# Altium footprint library TDII_Lib.PcbLib: 53 footprints (part 1 of 4)
Each footprint in its own frame and in the unit in brackets; x right, y up, seen from the top. Pads: shape width x height; smd on the part's side, far side on the other; paste and mask are expansions set on the pad; w line width, h text height; cw(c..) or ccw(c..) is an arc to the next point about the centre after c.
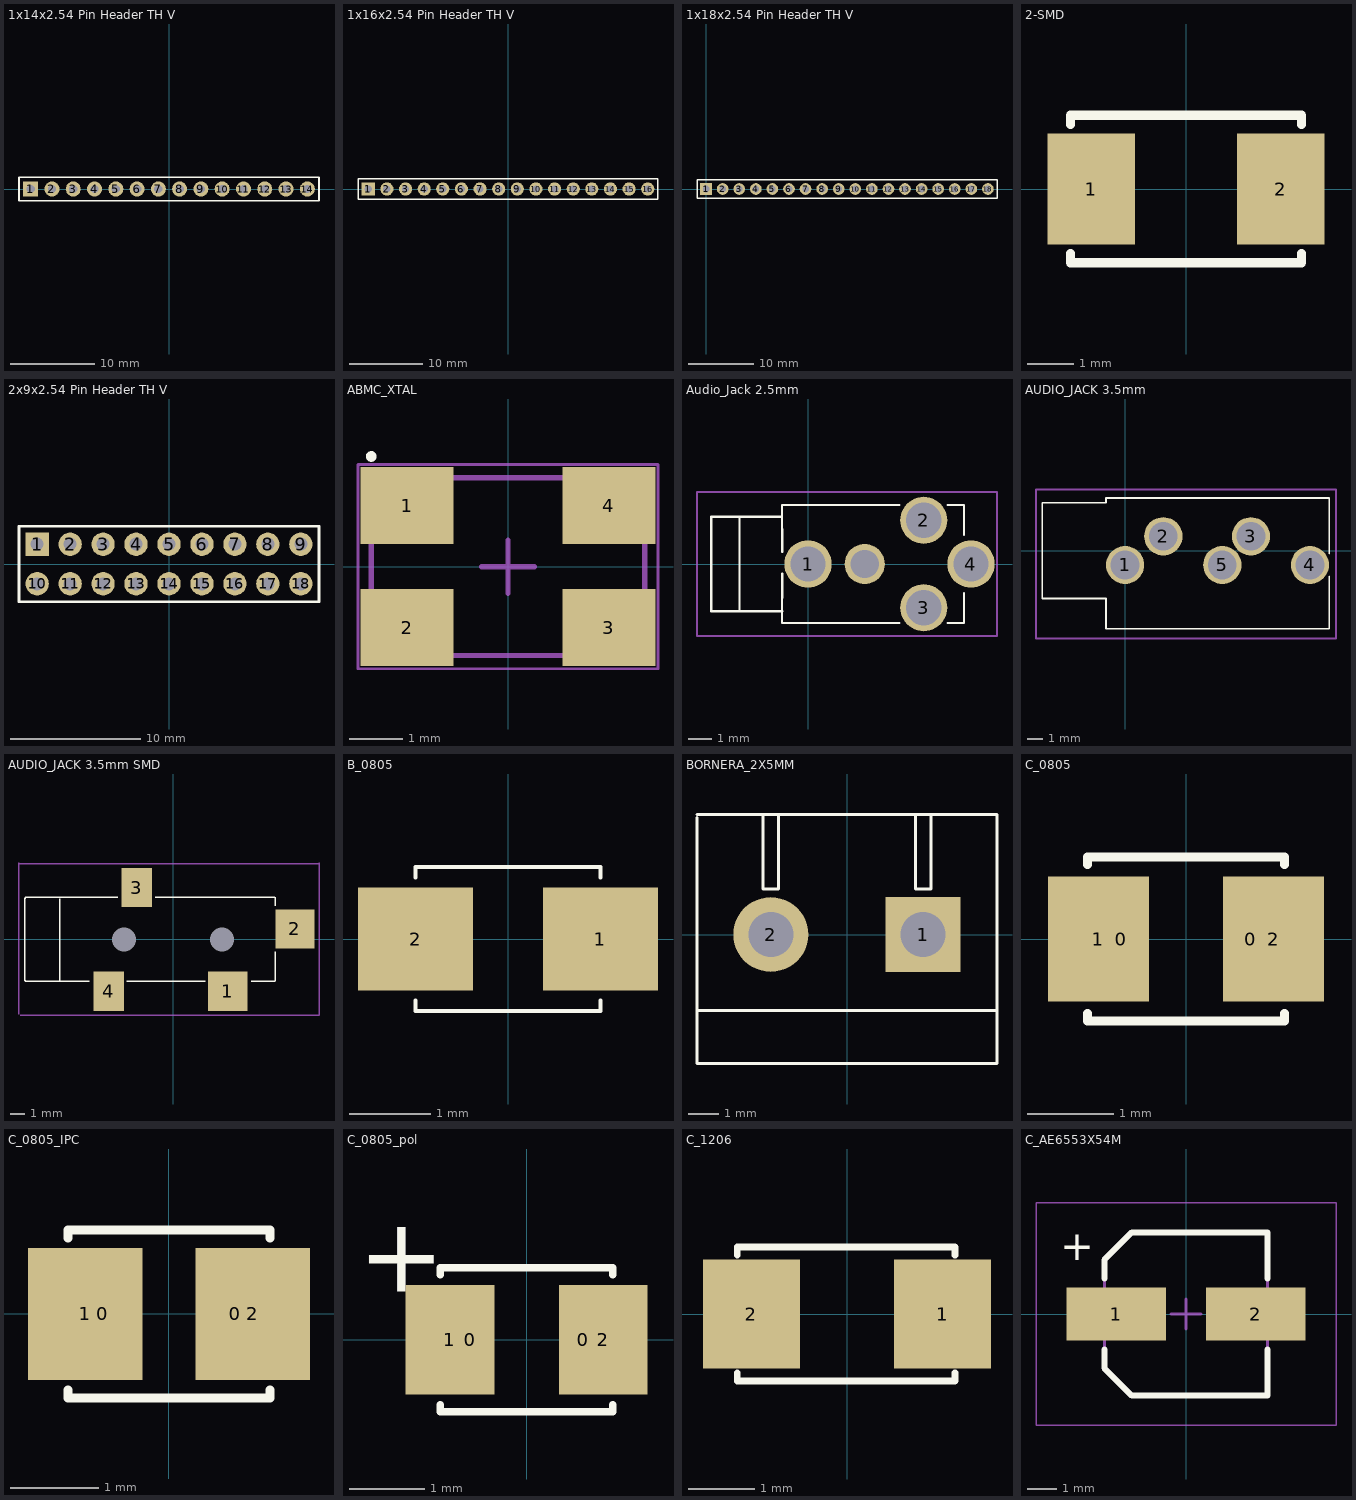
[diagram p0: the footprints below, top view; thin cyan lines are the x and y axes]

## 1x14x2.54 Pin Header TH V [mm] "1x14x2.54 Pin Header TH V"
height 8.54
pads (14):
  rect 1.8x1.8 hole 1: 1(-16.51,0)
  round 1.8 hole 1: 2(-13.97,0) 3(-11.43,0) 4(-8.89,0) 5(-6.35,0) 6(-3.81,0) 7(-1.27,0) 8(1.27,0) 9(3.81,0) 10(6.35,0) 11(8.89,0) 12(11.43,0) 13(13.97,0) 14(16.51,0)
Top Overlay:
  lines w0.2: -17.907,-1.397 -17.907,1.397 17.907,1.397 17.907,-1.397 -17.907,-1.397

## 1x16x2.54 Pin Header TH V [mm] "1x16x2.54 Pin Header TH V"
height 8.54
pads (16):
  rect 1.8x1.8 hole 1: 1(-19.05,0)
  round 1.8 hole 1: 2(-16.51,0) 3(-13.97,0) 4(-11.43,0) 5(-8.89,0) 6(-6.35,0) 7(-3.81,0) 8(-1.27,0) 9(1.27,0) 10(3.81,0) 11(6.35,0) 12(8.89,0) 13(11.43,0) 14(13.97,0) 15(16.51,0) 16(19.05,0)
Top Overlay:
  lines w0.2: -20.447,-1.397 -20.447,1.397 20.447,1.397 20.447,-1.397 -20.447,-1.397

## 1x18x2.54 Pin Header TH V [mm] "1x18x2.54 Pin Header TH V"
height 8.54
pads (18):
  rect 1.8x1.8 hole 1: 1(0,0)
  round 1.8 hole 1: 2(2.54,0) 3(5.08,0) 4(7.62,0) 5(10.16,0) 6(12.7,0) 7(15.24,0) 8(17.78,0) 9(20.32,0) 10(22.86,0) 11(25.4,0) 12(27.94,0) 13(30.48,0) 14(33.02,0) 15(35.56,0) 16(38.1,0) 17(40.64,0) 18(43.18,0)
Top Overlay:
  lines w0.2: -1.397,-1.397 -1.397,1.397 44.577,1.397 44.577,0.699 44.577,-0.699 44.577,-1.397 -1.397,-1.397

## 2-SMD [mm] "2-SMD-XTAL 12MHZ"
height 1.6
pads (2):
  rect 1.9x2.4 smd: 1(-2.05,0) 2(2.05,0)
Top Overlay:
  lines w0.2: -2.5,-1.4 -2.5,-1.6 2.5,-1.6 2.5,-1.4 ; -2.5,1.4 -2.5,1.6 2.5,1.6 2.5,1.4
3D body "2-SMD.STEP": height 1.05, standoff 0.05, extent -2.514,-1.6 2.514,1.6

## 2x9x2.54 Pin Header TH V [mm] "2x9x2.54 Pin Header TH V"
height 8.54
pads (18):
  rect 1.8x1.8 hole 1: 1(-10.16,1.524)
  round 1.8 hole 1: 2(-7.62,1.524) 3(-5.08,1.524) 4(-2.54,1.524) 5(0,1.524) 6(2.54,1.524) 7(5.08,1.524) 8(7.62,1.524) 9(10.16,1.524) 10(-10.16,-1.524) 11(-7.62,-1.524) 12(-5.08,-1.524) 13(-2.54,-1.524) 14(0,-1.524) 15(2.54,-1.524) 16(5.08,-1.524) 17(7.62,-1.524) 18(10.16,-1.524)
Top Overlay:
  lines w0.2: -11.557,-2.921 11.557,-2.921 11.557,2.921 -11.557,2.921 -11.557,-2.921

## ABMC_XTAL [mm] "ABM3C-12.000MHZ-D4Y-T"
height 1.3
pads (4):
  rect 1.75x1.45 smd: 1(-1.9,1.15) 2(-1.9,-1.15) 3(1.9,-1.15) 4(1.9,1.15)
Top Overlay:
  circle w0.1: c-2.575,2.075 r0.05
Mechanical 13:
  lines w0.1: -2.575,-1.675 2.575,-1.675 2.575,1.675 -2.575,1.675 -2.575,-1.675
Mechanical 15:
  lines w0.05: -2.825,-1.925 2.825,-1.925 2.825,1.925 -2.825,1.925 -2.825,-1.925
  lines w0.1: -0.5,0 0.5,0 ; 0,-0.5 0,0.5
3D body: height 1.3, standoff 0, extent -2.575,-1.675 2.575,1.675

## Audio_Jack 2.5mm [mm] "SJ1-2503A"
pads (5):
  round 2 hole 1.5: 1(0,0) 2(4.9,1.85) 3(4.9,-1.85) 4(6.9,0)
  round 1.7 hole 1.2: ""(2.4,0)
Top Overlay:
  lines w0.1: -2.9,-1.981 -2.9,2 ; -1.143,2 -2.819,2 -4.1,2 -4.1,-2 -2.692,-2 -1.092,-2 ; -1.092,-0.406 -1.1,-2.5 3.861,-2.5 ; -1.092,0.508 -1.1,2.5 3.861,2.5 ; 5.918,-2.5 6.604,-2.5 6.604,-1.245 ; 5.918,2.5 6.604,2.5 6.604,1.245
Mechanical 15:
  lines w0.1: -4.699,-3.048 -4.699,3.048 8.001,3.048 8.001,-3.048 -4.699,-3.048

## AUDIO_JACK 3.5mm [mm] "SJ1-353XN"
pads (5):
  round 2.4 hole 1.8: 1(0,-0.9) 2(2.4,0.9) 3(7.9,0.9) 4(11.6,-0.9) 5(6.1,-0.9)
Top Overlay:
  lines w0.1: -5.207,-3 -1.194,-3 -1.194,-4.9 12.8,-4.9 12.802,-1.6 ; -5.2,-2.997 -5.2,3 -1.194,3 -1.194,3.302 ; -1.194,3.3 12.8,3.3 12.802,-0.203
Mechanical 15:
  lines w0.1: -5.588,-5.512 -5.588,3.835 13.233,3.835 13.233,-5.512 -5.588,-5.512

## AUDIO_JACK 3.5mm SMD [mm] "SJ-3524-SMT"
pads (6):
  rect 2.8x2.8 smd: 1(3.9,-3.7) 2(8.7,0.75)
  rect 2.2x2.8 smd: 3(-2.6,3.7) 4(-4.6,-3.7)
  round 0 hole 1.7: ""(-3.5,0) ""(3.5,0)
Top Overlay:
  lines w0.1: -8.1,2.921 -8.1,-3 ; -5.969,-3 -8.1,-3 ; -3.937,3 -8.1,3 -10.521,3 -10.6,2.921 -10.6,-2.921 -10.521,-3 -8.1,-3 ; -3.302,-3 2.286,-3 ; -1.27,3 7.239,3 ; 5.588,-3 7.239,-3 ; 7.3,-3 7.3,-0.889 ; 7.3,2.413 7.3,3
Mechanical 15:
  lines w0.1: -11,-5.334 -11,5.461 ; -11,5.4 10.414,5.4 ; -10.922,-5.4 10.414,-5.4 10.414,5.461

## B_0805 [mil]
pads (2):
  rect 56x50 smd: 1(45,0) 2(-45,0)
Top Overlay:
  lines w2: -45,-30 -45,-35 45,-35 45,-30 ; -45,30 -45,35 45,35 45,30

## BORNERA_2X5MM [mm]
pads (2):
  rect 2.5x2.5 hole 1.5: 1(2.54,0)
  round 2.5 hole 1.5: 2(-2.54,0)
Top Overlay:
  lines w0.102: -5,-2.413 -5,-2.54 5,-2.54 ; -5,3.9 -5,-4.3 5,-4.3 5,4 -5,4 ; -2.794,4 -2.794,1.524 -2.286,1.524 -2.286,4 ; 2.286,4 2.286,1.524 2.794,1.524 2.794,4

## C_0805 [mm]
height 0.6
pads (4):
  rect 0.5x1.25 on Mech3: 0(-0.75,0) 0(0.75,0)
  rect 1.175x1.45 smd: 1(-1.016,0) 2(1.016,0)
Top Overlay:
  lines w0.102: -1.143,-0.864 -1.143,-0.953 1.143,-0.953 1.143,-0.864 ; -1.143,0.864 -1.143,0.953 1.143,0.953 1.143,0.864

## C_0805_IPC [mm]
pads (4):
  rect 0.5x1.25 on Mech3: 0(-0.75,0) 0(0.75,0)
  rect 1.3x1.5 smd: 1(-0.95,0) 2(0.95,0)
Top Overlay:
  lines w0.102: -1.143,-0.864 -1.143,-0.953 1.143,-0.953 1.143,-0.864 ; -1.143,0.864 -1.143,0.953 1.143,0.953 1.143,0.864

## C_0805_pol [mm]
pads (4):
  rect 0.5x1.25 on Mech3: 0(-0.75,0) 0(0.75,0)
  rect 1.175x1.45 smd: 1(-1.016,0) 2(1.016,0)
Top Overlay:
  lines w0.102: -1.143,-0.864 -1.143,-0.953 1.143,-0.953 1.143,-0.864 ; -1.143,0.864 -1.143,0.953 1.143,0.953 1.143,0.864
  text "+" at -2.235,0.635 h1

## C_1206 [mm]
pads (2):
  rect 1.475x1.65 smd: 1(1.45,0) 2(-1.45,0)
Top Overlay:
  lines w0.102: -1.664,-0.889 -1.664,-1.016 1.638,-1.016 1.638,-0.889 ; -1.664,0.889 -1.664,1.016 1.638,1.016 1.638,0.889

## C_AE6553X54M [mm] "Aluminum Electrolytic Capacitor, 4.7uF, 50V"
height 5.4
pads (2):
  rect 3.35x1.8 smd: 1(-2.35,0) 2(2.35,0)
Top Overlay:
  lines w0.2: -2.75,-1.2 -2.75,-1.825 -1.825,-2.75 2.75,-2.75 2.75,-1.2 ; -2.75,1.2 -2.75,1.825 -1.825,2.75 2.75,2.75 2.75,1.2
  text "+" at -4.242,1.803 h1
Mechanical 13:
  lines w0.1: -2.75,-1.825 -1.825,-2.75 2.75,-2.75 2.75,2.75 -1.825,2.75 -2.75,1.825 -2.75,-1.825
Mechanical 15:
  lines w0.05: -5.05,-3.75 -5.05,3.75 5.05,3.75 5.05,-3.75 -5.05,-3.75
  lines w0.1: -0.5,0 0.5,0 ; 0,-0.5 0,0.5
3D body: height 1.8, standoff 0, extent -2.75,-2.75 2.75,2.75
3D body: height 5.4, standoff 0, extent -2.75,-2.75 2.75,2.748